# EAGLE library part MC100EPT26DG (library on-semiconductor-01)
3.3V 1:2 Fanout Differentia LVPECL/LVDS to LVTTL Translator
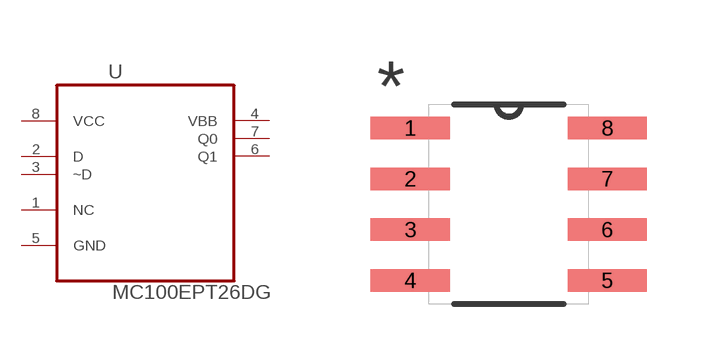
[diagram p137: symbol with the pads of SOIC127P600X175-8N; footprint SOIC127P600X175-8N]

Designator prefix U

## MC100EPT26DG (MPN: MC100EPT26DG; OC_FARNELL: 1607874; OC_NEWARK: 42K0377; PACKAGE: SOIC-8; SUPPLIER: Onsemiconductor)  [SOIC127P600X175-8N]
1  NC  nc
2  D  in
3  ~D  in
4  VBB  out
5  GND  pas
6  Q1  out
7  Q0  out
8  VCC  pwr

## Footprint SOIC127P600X175-8N (pad centres in mm)
smd 1.981 x 0.559: 1 -2.464,1.905; 2 -2.464,0.635; 3 -2.464,-0.635; 4 -2.464,-1.905; 5 2.464,-1.905; 6 2.464,-0.635; 7 2.464,0.635; 8 2.464,1.905